# Altium schematic symbol library STM32F205R.SchLib: 1 symbol
Pins are listed as number, name and electrical type; pins without a type are passive.

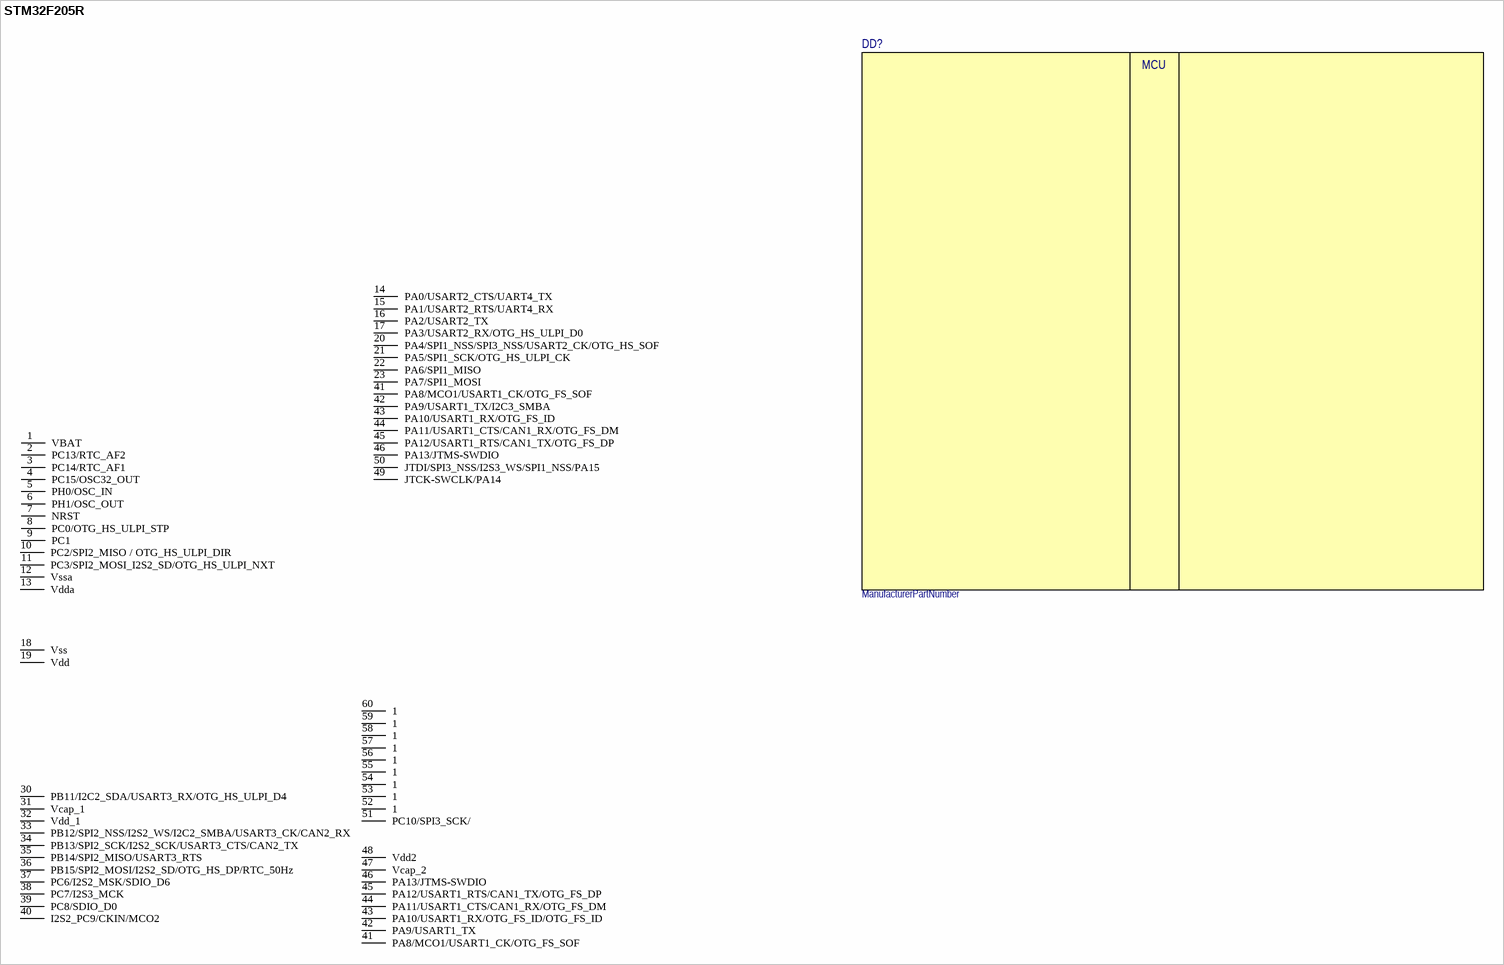
[diagram p0: symbol STM32F205R]

## STM32F205R
designator DD?  (value not drawn)
ManufacturerPartNumber: ManufacturerPartNumber
pins: 1 VBAT, 2 PC13/RTC_AF2, 3 PC14/RTC_AF1, 4 PC15/OSC32_OUT, 5 PH0/OSC_IN, 6 PH1/OSC_OUT, 7 NRST, 8 PC0/OTG_HS_ULPI_STP, 9 PC1, 10 PC2/SPI2_MISO / OTG_HS_ULPI_DIR, 11 PC3/SPI2_MOSI_I2S2_SD/OTG_HS_ULPI_NXT, 12 Vssa, 13 Vdda, 14 PA0/USART2_CTS/UART4_TX, 15 PA1/USART2_RTS/UART4_RX, 16 PA2/USART2_TX, 17 PA3/USART2_RX/OTG_HS_ULPI_D0, 18 Vss, 19 Vdd, 20 PA4/SPI1_NSS/SPI3_NSS/USART2_CK/OTG_HS_SOF, 21 PA5/SPI1_SCK/OTG_HS_ULPI_CK, 22 PA6/SPI1_MISO, 23 PA7/SPI1_MOSI, 30 PB11/I2C2_SDA/USART3_RX/OTG_HS_ULPI_D4, 31 Vcap_1, 32 Vdd_1, 33 PB12/SPI2_NSS/I2S2_WS/I2C2_SMBA/USART3_CK/CAN2_RX, 34 PB13/SPI2_SCK/I2S2_SCK/USART3_CTS/CAN2_TX, 35 PB14/SPI2_MISO/USART3_RTS, 36 PB15/SPI2_MOSI/I2S2_SD/OTG_HS_DP/RTC_50Hz, 37 PC6/I2S2_MSK/SDIO_D6, 38 PC7/I2S3_MCK, 39 PC8/SDIO_D0, 40 I2S2_PC9/CKIN/MCO2, 41 PA8/MCO1/USART1_CK/OTG_FS_SOF, 41 PA8/MCO1/USART1_CK/OTG_FS_SOF, 42 PA9/USART1_TX/I2C3_SMBA, 42 PA9/USART1_TX, 43 PA10/USART1_RX/OTG_FS_ID, 43 PA10/USART1_RX/OTG_FS_ID/OTG_FS_ID, 44 PA11/USART1_CTS/CAN1_RX/OTG_FS_DM, 44 PA11/USART1_CTS/CAN1_RX/OTG_FS_DM, 45 PA12/USART1_RTS/CAN1_TX/OTG_FS_DP, 45 PA12/USART1_RTS/CAN1_TX/OTG_FS_DP, 46 PA13/JTMS-SWDIO, 46 PA13/JTMS-SWDIO, 47 Vcap_2, 48 Vdd2, 49 JTCK-SWCLK/PA14, 50 JTDI/SPI3_NSS/I2S3_WS/SPI1_NSS/PA15, 51 PC10/SPI3_SCK/, 52 1, 53 1, 54 1, 55 1, 56 1, 57 1, 58 1, 59 1, 60 1
text: MCU